# Altium schematic symbol library KSC253J_SP_DELTA_LFG.SchLib: 1 symbol
Pins are listed as number, name and electrical type; pins without a type are passive.

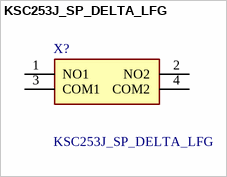
[diagram p0: symbol KSC253J_SP_DELTA_LFG]

## KSC253J_SP_DELTA_LFG
designator X?
Tactile Switches 6.2 x 6.2mm, 3.mm height soft actuator, 5.5N, gold contact material; Manufacturer_Name: C & K COMPONENTS; Manufacturer_Part_Number: KSC253J SP DELTA LFG; Geometry.Height: 3.5mm; Mouser Part Number: 611-KSC253JSPDELTALF; Mouser Price/Stock: https://www.mouser.co.uk/ProductDetail/CK/KSC253J-SP-DELTA-LFG?qs=i8QVZAFTkqRm%252BD28PDm3qw%3D%3D; Datasheet Link: https://www.ckswitches.com/media/1459/ksc.pdf
footprint KSC253JSPDELTALFG
pins: 1 NO1, 2 NO2, 3 COM1, 4 COM2